# EAGLE library part MC10EP89DTG (library Driver_Transceiver ICs)
IC DRIVER 1/0 8TSSOP Manufacturer's datasheet <https://www.onsemi.com/pub/Collateral/MC10EP89-D.PDF>
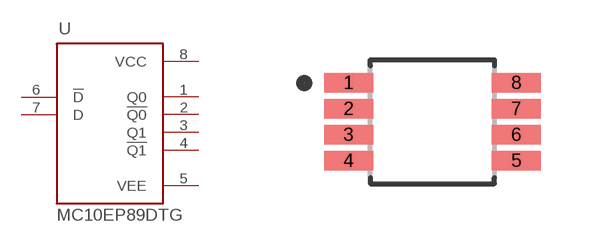
[diagram p7: symbol with the pads of TSSOP-8; footprint TSSOP-8]

Designator prefix U

## MC10EP89DTG (CREATED_BY: PCBLayout.com; DIGIKEY_PARTNO: MC10EP89DTGOS-ND; MANUFACTURER: ON Semiconductor; MPN: MC10EP89DTG; PACKAGE: TSSOP-8)  [TSSOP-8]
1  Q0  out
2  !Q0  out
3  Q1  out
4  !Q1  out
5  VEE  pwr
6  !D  in
7  D  in
8  VCC  pwr

## Footprint TSSOP-8 (pad centres in mm)
Small Outline Pkg (SOP), 0.65 mm pitch; 8 pin, 3.00 mm L X 3.00 mm W X 1.10 mm H body PCB Libraries Packages
smd 1.22 x 0.48: 1 -2.095,0.975; 2 -2.095,0.325; 3 -2.095,-0.325; 4 -2.095,-0.975; 5 2.095,-0.975; 6 2.095,-0.325; 7 2.095,0.325; 8 2.095,0.975